# Altium integrated library Linear Technology Power Management Switching Regulator LTC1174-LTC3901.IntLib: 2647 symbols (part 305 of 364)
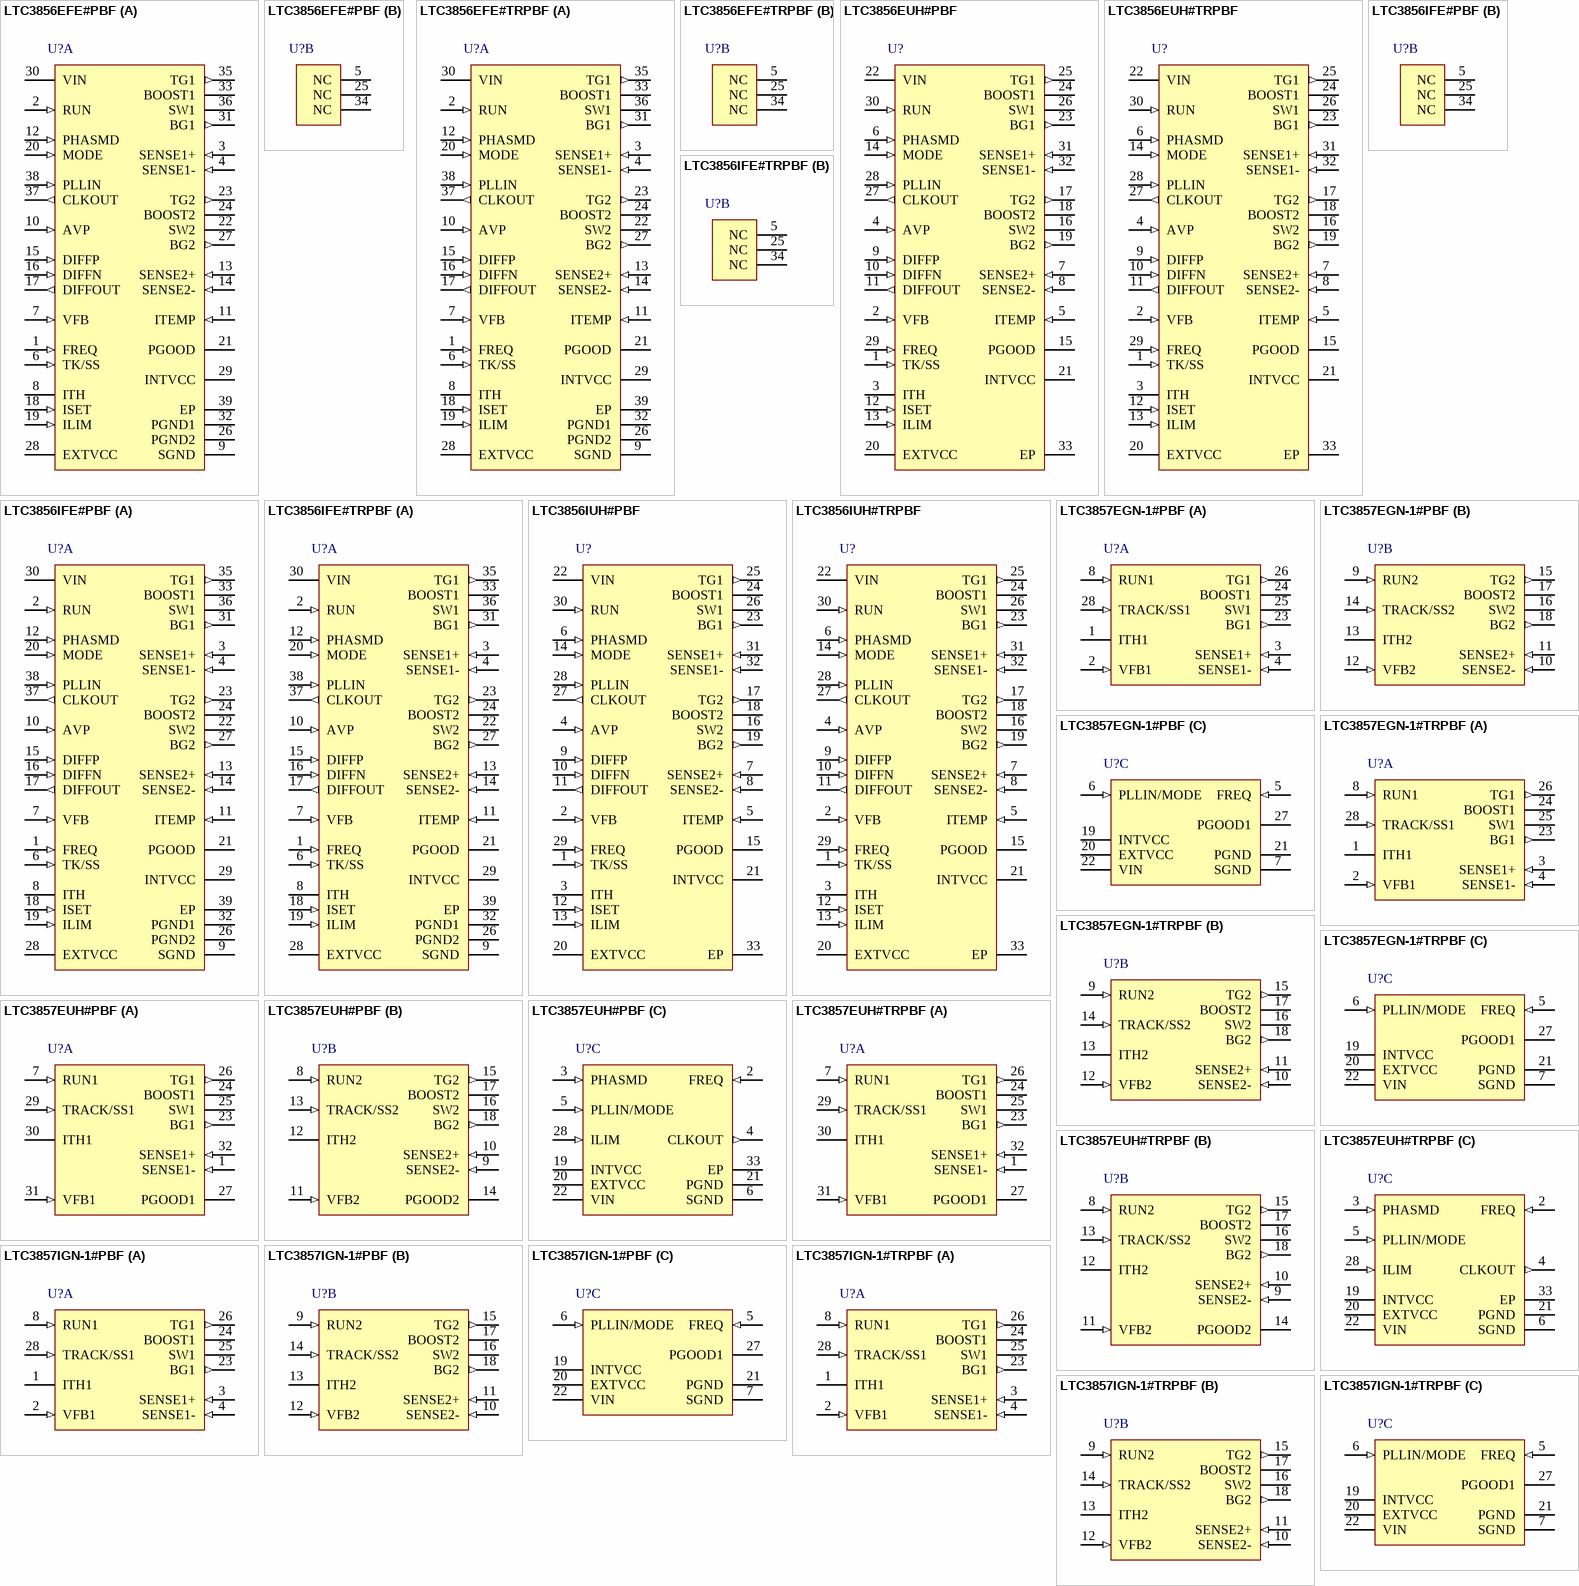
[diagram p275: symbols LTC3856EFE#PBF to LTC3857IGN-1#TRPBF]

## LTC3856EUH#PBF
designator U?
2-Phase Synchronous Step-Down DC/DC Controller with Differential Amplifier, 32-pin QFN (UH-32), -40 to 125 degC, Pb-Free; Manufacturer: Linear Technology; PartNumber: LTC3856EUH#PBF; Frequency Sync Range: 250kHz - 770kHz; Number of Outputs: 1; PackageVersion: Rev. D, 06/2010; PackageReference: UH-32; PackageDescription: 32-Pin Plastic QFN, Body 5 x 5 mm, Pitch 0.5 mm; Supplier 1: Digi-Key; Supplier Part Number 1: LTC3856EUH#PBF-ND; Supplier 2: Newark; Supplier Part Number 2: 13T3952; RoHS: TRUE; Mounting Technology: Surface Mount; Code_JEDEC: MO-220; ComponentLink1Description: Manufacturer URL; ComponentLink1URL: http://www.linear.com/; ComponentLink2Description: Datasheet; ComponentLink2URL: http://cds.linear.com/docs/en/datasheet/3856f.pdf; ComponentLink3Description: Package Specification; ComponentLink3URL: http://cds.linear.com/docs/en/packaging/QFN_32_05-08-1693.pdf
footprint LT-UH-32_N (QFN, 32-Leads, Body 5.1x5.1mm, Pitch 0.5mm, Thermal Pad 3.45X3.45mm, IPC Medium Density)
footprint LT-UH-32_L (QFN, 32-Leads, Body 5.1x5.1mm, Pitch 0.5mm, Thermal Pad 3.45X3.45mm, IPC High Density)
footprint LT-UH-32_M (QFN, 32-Leads, Body 5.1x5.1mm, Pitch 0.5mm, Thermal Pad 3.45X3.45mm, IPC Low Density)
pins: 1 TK/SS (in) "Output Voltage Tracking and SoftStart Input. When one particular IC is configured to be the master of two ICs, a capacitor to ground at this pin sets the ramp rate for the master IC’s output voltage. When the IC i(See Datasheet)", 2 VFB (in) "Error Amplifier Feedback Input. This pin receives the remotely sensed feedback voltage from an external resistive divider", 3 ITH "Current Control Threshold and Error Amplifier Compensation Point. Each associated channels’ current comparator tripping threshold increases with ITH control voltage.", 4 AVP (in) "Active Voltage Positioning Load Slope Programming Pin. A resistor between this pin and the DIFFP pin sets the load slope.", 5 ITEMP (in) "Input to the Temperature Sensing Circuit. Connect this pin to an external NTC (negative temperature coefficient) resistor placed near the heat source on the PCB board (e.g., inductors) changes the controller’s curren(See Datasheet)", 6 PHASMD (in) "Connect this pin to SGND, INTVCC, or float this pin to select the phase of CLKOUT to be 60degrees, 120degrees and 90degrees, respectively.", 7 SENSE2+ (in) "Current Sense Comparator Inputs. The (+) inputs to the current comparators are normally connected to DCR sensing networks or current sensing resistors.", 8 SENSE2- (in) "Current Sense Comparator Inputs. The (-) inputs to the current comparators are connected to the outputs.", 9 DIFFP (in) "Positive Input of Remote Sensing Differential Amplifier. Connect this directly to the remote load voltage.", 10 DIFFN (in) "Negative Input of Remote Sensing Differential Amplifier. Connect this pin to the negative terminal of output load capacitors.", 11 DIFFOUT (out) "Output of Remote Sensing Differential Amplifier. Connect this pin to VFB through a resistive divider.", 12 ISET (in) "Stage Shedding Mode Comparator and Burst Mode Comparator Programming Pin. A resistor to ground programs the threshold of the Stage Shedding mode comparator or Burst Mode comparator threshold and current limit.", 13 ILIM (in) "Current Comparator Sense Voltage Range Input. This pin is to be programmed to SGND, FLOAT or INTVCC to set the maximum current sense threshold to one of three different levels for both comparators.", 14 MODE (in) "Forced Continuous Mode, Burst Mode Operation or Stage Shedding Mode Selection Pin. Connect this pin to SGND to force IC in continuous mode of operation. Connect to INTVCC to enable Stage Shedding mode operation. Leaving the (See Datasheet)", 15 PGOOD (oc) "Signal Ground and Power Ground. All small-signal components and compensation components should connect to this ground, which in turn connects to PGND at one point.", 16 SW2 "Switch Node Connections to Inductors. Voltage swing at these pins is from a Schottky diode (external) voltage drop below ground to VIN.", 17 TG2 (out) "Top Gate Driver Outputs. These are the outputs of floating drivers with a voltage swing equal to INTVCC superimposed on the switch nodes voltages.", 18 BOOST2 "Boosted Floating Driver Supplies. The (+) terminal of the bootstrap capacitors connect to these pins. These pins swing from a diode voltage drop below INTVCC up to VIN + INTVCC.", 19 BG2 (out) "Bottom Gate Driver Outputs. These pins drive the gates of the bottom N-channel MOSFETs between INTVCC and PGND.", 20 EXTVCC (power) "External Power Input to an Internal Switch Connected to INTVCC. This switch closes and supplies the IC power, bypassing the internal low dropout regulator, whenever EXTVCC is higher than 4.7V. Do not exceed 6V on this pin (See Datasheet)", 21 INTVCC (power) "Internal 5V Regulator Output. The control circuits are powered from this voltage. Decouple this pin to PGND with a minimum of 4.7uF low ESR tantalum or ceramic capacitor", 22 VIN (power) "Main Input Supply. Decouple this pin to PGND with a capacitor (0.1uF to 1uF).", 23 BG1 (out) "Bottom Gate Driver Outputs. These pins drive the gates of the bottom N-channel MOSFETs between INTVCC and PGND.", 24 BOOST1 "Boosted Floating Driver Supplies. The (+) terminal of the bootstrap capacitors connect to these pins. These pins swing from a diode voltage drop below INTVCC up to VIN + INTVCC.", 25 TG1 (out) "Top Gate Driver Outputs. These are the outputs of floating drivers with a voltage swing equal to INTVCC superimposed on the switch nodes voltages.", 26 SW1 "Switch Node Connections to Inductors. Voltage swing at these pins is from a Schottky diode (external) voltage drop below ground to VIN.", 27 CLKOUT (out) "Clock output with phase changeable by PHASMD to enable usage of multiple LTC3856 ICs in multiphase systems.", 28 PLLIN (in) "External Synchronization Pin. A clock on the pin synchronizes the internal oscillator with the clock on this pin.", 29 FREQ (in) "Frequency Setting Pin. A resistor to ground sets the operating frequency of the controller. This pin can also be driven with a DC voltage to vary the frequency of the internal oscillator", 30 RUN (in) "Run Control Input. A voltage above 1.22V on this pin turns on the IC. There is a 1uA pull-up current for this pin. Once the RUN pin rises above 1.22V, an additional 4.5uA pull-up current is added to the pin.", 31 SENSE1+ (in) "Current Sense Comparator Inputs. The (+) inputs to the current comparators are normally connected to DCR sensing networks or current sensing resistors.", 32 SENSE1- (in) "Current Sense Comparator Inputs. The (-) inputs to the current comparators are connected to the outputs.", 33 EP (power) "Signal Ground and Power Ground. All small-signal components and compensation components should connect to this ground, which in turn connects to PGND at one point."

## LTC3856EUH#TRPBF
designator U?
2-Phase Synchronous Step-Down DC/DC Controller with Differential Amplifier, 32-pin QFN (UH-32), -40 to 125 degC, Pb-Free, Tape and Reel; Manufacturer: Linear Technology; PartNumber: LTC3856EUH#TRPBF; Frequency Sync Range: 250kHz - 770kHz; Number of Outputs: 1; PackageVersion: Rev. D, 06/2010; PackageReference: UH-32; PackageDescription: 32-Pin Plastic QFN, Body 5 x 5 mm, Pitch 0.5 mm; Supplier 1: Digi-Key; Supplier Part Number 1: LTC3856EUH#TRPBF-ND; Packing: Tape and Reel; RoHS: TRUE; Mounting Technology: Surface Mount; Code_JEDEC: MO-220; ComponentLink1Description: Manufacturer URL; ComponentLink1URL: http://www.linear.com/; ComponentLink2Description: Datasheet; ComponentLink2URL: http://cds.linear.com/docs/en/datasheet/3856f.pdf; ComponentLink3Description: Package Specification; ComponentLink3URL: http://cds.linear.com/docs/en/packaging/QFN_32_05-08-1693.pdf
footprint LT-UH-32_N (QFN, 32-Leads, Body 5.1x5.1mm, Pitch 0.5mm, Thermal Pad 3.45X3.45mm, IPC Medium Density)
footprint LT-UH-32_L (QFN, 32-Leads, Body 5.1x5.1mm, Pitch 0.5mm, Thermal Pad 3.45X3.45mm, IPC High Density)
footprint LT-UH-32_M (QFN, 32-Leads, Body 5.1x5.1mm, Pitch 0.5mm, Thermal Pad 3.45X3.45mm, IPC Low Density)
pins: 1 TK/SS (in) "Output Voltage Tracking and SoftStart Input. When one particular IC is configured to be the master of two ICs, a capacitor to ground at this pin sets the ramp rate for the master IC’s output voltage. When the IC i(See Datasheet)", 2 VFB (in) "Error Amplifier Feedback Input. This pin receives the remotely sensed feedback voltage from an external resistive divider", 3 ITH "Current Control Threshold and Error Amplifier Compensation Point. Each associated channels’ current comparator tripping threshold increases with ITH control voltage.", 4 AVP (in) "Active Voltage Positioning Load Slope Programming Pin. A resistor between this pin and the DIFFP pin sets the load slope.", 5 ITEMP (in) "Input to the Temperature Sensing Circuit. Connect this pin to an external NTC (negative temperature coefficient) resistor placed near the heat source on the PCB board (e.g., inductors) changes the controller’s curren(See Datasheet)", 6 PHASMD (in) "Connect this pin to SGND, INTVCC, or float this pin to select the phase of CLKOUT to be 60degrees, 120degrees and 90degrees, respectively.", 7 SENSE2+ (in) "Current Sense Comparator Inputs. The (+) inputs to the current comparators are normally connected to DCR sensing networks or current sensing resistors.", 8 SENSE2- (in) "Current Sense Comparator Inputs. The (-) inputs to the current comparators are connected to the outputs.", 9 DIFFP (in) "Positive Input of Remote Sensing Differential Amplifier. Connect this directly to the remote load voltage.", 10 DIFFN (in) "Negative Input of Remote Sensing Differential Amplifier. Connect this pin to the negative terminal of output load capacitors.", 11 DIFFOUT (out) "Output of Remote Sensing Differential Amplifier. Connect this pin to VFB through a resistive divider.", 12 ISET (in) "Stage Shedding Mode Comparator and Burst Mode Comparator Programming Pin. A resistor to ground programs the threshold of the Stage Shedding mode comparator or Burst Mode comparator threshold and current limit.", 13 ILIM (in) "Current Comparator Sense Voltage Range Input. This pin is to be programmed to SGND, FLOAT or INTVCC to set the maximum current sense threshold to one of three different levels for both comparators.", 14 MODE (in) "Forced Continuous Mode, Burst Mode Operation or Stage Shedding Mode Selection Pin. Connect this pin to SGND to force IC in continuous mode of operation. Connect to INTVCC to enable Stage Shedding mode operation. Leaving the (See Datasheet)", 15 PGOOD (oc) "Signal Ground and Power Ground. All small-signal components and compensation components should connect to this ground, which in turn connects to PGND at one point.", 16 SW2 "Switch Node Connections to Inductors. Voltage swing at these pins is from a Schottky diode (external) voltage drop below ground to VIN.", 17 TG2 (out) "Top Gate Driver Outputs. These are the outputs of floating drivers with a voltage swing equal to INTVCC superimposed on the switch nodes voltages.", 18 BOOST2 "Boosted Floating Driver Supplies. The (+) terminal of the bootstrap capacitors connect to these pins. These pins swing from a diode voltage drop below INTVCC up to VIN + INTVCC.", 19 BG2 (out) "Bottom Gate Driver Outputs. These pins drive the gates of the bottom N-channel MOSFETs between INTVCC and PGND.", 20 EXTVCC (power) "External Power Input to an Internal Switch Connected to INTVCC. This switch closes and supplies the IC power, bypassing the internal low dropout regulator, whenever EXTVCC is higher than 4.7V. Do not exceed 6V on this pin (See Datasheet)", 21 INTVCC (power) "Internal 5V Regulator Output. The control circuits are powered from this voltage. Decouple this pin to PGND with a minimum of 4.7uF low ESR tantalum or ceramic capacitor", 22 VIN (power) "Main Input Supply. Decouple this pin to PGND with a capacitor (0.1uF to 1uF).", 23 BG1 (out) "Bottom Gate Driver Outputs. These pins drive the gates of the bottom N-channel MOSFETs between INTVCC and PGND.", 24 BOOST1 "Boosted Floating Driver Supplies. The (+) terminal of the bootstrap capacitors connect to these pins. These pins swing from a diode voltage drop below INTVCC up to VIN + INTVCC.", 25 TG1 (out) "Top Gate Driver Outputs. These are the outputs of floating drivers with a voltage swing equal to INTVCC superimposed on the switch nodes voltages.", 26 SW1 "Switch Node Connections to Inductors. Voltage swing at these pins is from a Schottky diode (external) voltage drop below ground to VIN.", 27 CLKOUT (out) "Clock output with phase changeable by PHASMD to enable usage of multiple LTC3856 ICs in multiphase systems.", 28 PLLIN (in) "External Synchronization Pin. A clock on the pin synchronizes the internal oscillator with the clock on this pin.", 29 FREQ (in) "Frequency Setting Pin. A resistor to ground sets the operating frequency of the controller. This pin can also be driven with a DC voltage to vary the frequency of the internal oscillator", 30 RUN (in) "Run Control Input. A voltage above 1.22V on this pin turns on the IC. There is a 1uA pull-up current for this pin. Once the RUN pin rises above 1.22V, an additional 4.5uA pull-up current is added to the pin.", 31 SENSE1+ (in) "Current Sense Comparator Inputs. The (+) inputs to the current comparators are normally connected to DCR sensing networks or current sensing resistors.", 32 SENSE1- (in) "Current Sense Comparator Inputs. The (-) inputs to the current comparators are connected to the outputs.", 33 EP (power) "Signal Ground and Power Ground. All small-signal components and compensation components should connect to this ground, which in turn connects to PGND at one point."

## LTC3856IFE#PBF
designator U?
2-Phase Synchronous Step-Down DC/DC Controller with Differential Amplifier, 38-pin SOP (FE-38-EPV-AA), -40 to 125 degC, Pb-Free; Manufacturer: Linear Technology; PartNumber: LTC3856IFE#PBF; Frequency Sync Range: 250kHz - 770kHz; Number of Outputs: 1; PackageVersion: Rev. C, 09/2010; PackageReference: FE-38; PackageDescription: 38-Pin Plastic TSSOP, Body 9.7 x 4.4 mm, Pitch 0.5 mm; Supplier 1: Digi-Key; Supplier Part Number 1: LTC3856IFE#PBF-ND; RoHS: TRUE; Mounting Technology: Surface Mount; ComponentLink1Description: Manufacturer URL; ComponentLink1URL: http://www.linear.com/; ComponentLink2Description: Datasheet; ComponentLink2URL: http://cds.linear.com/docs/en/datasheet/3856f.pdf; ComponentLink3Description: Package Specification; ComponentLink3URL: http://cds.linear.com/docs/en/packaging/TSSOP_38_05-08-1772.pdf
footprint LT-FE-38-EPV-AA_N (SOP, 38-Leads, Body 9.8x4.5mm, Pitch 0.5mm, Thermal Pad 4.75x2.74mm, IPC Medium Density)
footprint LT-FE-38-EPV-AA_L (SOP, 38-Leads, Body 9.8x4.5mm, Pitch 0.5mm, Thermal Pad 4.75x2.74mm, IPC High Density)
footprint LT-FE-38-EPV-AA_M (SOP, 38-Leads, Body 9.8x4.5mm, Pitch 0.5mm, Thermal Pad 4.75x2.74mm, IPC Low Density)
part A pins: 1 FREQ (in) "Frequency Setting Pin. A resistor to ground sets the operating frequency of the controller. This pin can also be driven with a DC voltage to vary the frequency of the internal oscillator", 2 RUN (in) "Run Control Input. A voltage above 1.22V on this pin turns on the IC. There is a 1uA pull-up current for this pin. Once the RUN pin rises above 1.22V, an additional 4.5uA pull-up current is added to the pin.", 3 SENSE1+ (in) "Current Sense Comparator Inputs. The (+) inputs to the current comparators are normally connected to DCR sensing networks or current sensing resistors.", 4 SENSE1- (in) "Current Sense Comparator Inputs. The (-) inputs to the current comparators are connected to the outputs.", 6 TK/SS (in) "Output Voltage Tracking and SoftStart Input. When one particular IC is configured to be the master of two ICs, a capacitor to ground at this pin sets the ramp rate for the master IC’s output voltage. When the IC i(See Datasheet)", 7 VFB (in) "Error Amplifier Feedback Input. This pin receives the remotely sensed feedback voltage from an external resistive divider", 8 ITH "Current Control Threshold and Error Amplifier Compensation Point. Each associated channels?current comparator tripping threshold increases with ITH control voltage.", 9 SGND (power) "Signal Ground and Power Ground. All small-signal components and compensation components should connect to this ground, which in turn connects to PGND at one point.", 10 AVP (in) "Active Voltage Positioning Load Slope Programming Pin. A resistor between this pin and the DIFFP pin sets the load slope.", 11 ITEMP (in) "Input to the Temperature Sensing Circuit. Connect this pin to an external NTC (negative temperature coefficient) resistor placed near the heat source on the PCB board (e.g., inductors) changes the controller’s curren(See Datasheet)", 12 PHASMD (in) "Connect this pin to SGND, INTVCC, or float this pin to select the phase of CLKOUT to be 60degrees, 120degrees and 90degrees, respectively.", 13 SENSE2+ (in) "Current Sense Comparator Inputs. The (+) inputs to the current comparators are normally connected to DCR sensing networks or current sensing resistors.", 14 SENSE2- (in) "Current Sense Comparator Inputs. The (-) inputs to the current comparators are connected to the outputs.", 15 DIFFP (in) "Positive Input of Remote Sensing Differential Amplifier. Connect this directly to the remote load voltage.", 16 DIFFN (in) "Negative Input of Remote Sensing Differential Amplifier. Connect this pin to the negative terminal of output load capacitors.", 17 DIFFOUT (out) "Output of Remote Sensing Differential Amplifier. Connect this pin to VFB through a resistive divider.", 18 ISET (in) "Stage Shedding Mode Comparator and Burst Mode Comparator Programming Pin. A resistor to ground programs the threshold of the Stage Shedding mode comparator or Burst Mode comparator threshold and current limit.", 19 ILIM (in) "Current Comparator Sense Voltage Range Input. This pin is to be programmed to SGND, FLOAT or INTVCC to set the maximum current sense threshold to one of three different levels for both comparators.", 20 MODE (in) "Forced Continuous Mode, Burst Mode Operation or Stage Shedding Mode Selection Pin. Connect this pin to SGND to force IC in continuous mode of operation. Connect to INTVCC to enable Stage Shedding mode operation. Leaving the (See Datasheet)", 21 PGOOD (oc) "Power Good Indicator Output. Open-drain logic out that is pulled to ground when the output exceeds the +/-10% regulation window, after the internal 20us power-bad mask timer expires.", 22 SW2 "Switch Node Connections to Inductors. Voltage swing at these pins is from a Schottky diode (external) voltage drop below ground to VIN.", 23 TG2 (out) "Top Gate Driver Outputs. These are the outputs of floating drivers with a voltage swing equal to INTVCC superimposed on the switch nodes voltages.", 24 BOOST2 "Boosted Floating Driver Supplies. The (+) terminal of the bootstrap capacitors connect to these pins. These pins swing from a diode voltage drop below INTVCC up to VIN + INTVCC.", 26 PGND2 (power) "Power Ground Pin. Connect this pin closely to the sources of the bottom N-channel MOSFETs, the (-) terminal of CVCC and the (-) terminal of CIN.", 27 BG2 (out) "Bottom Gate Driver Outputs. These pins drive the gates of the bottom N-channel MOSFETs between INTVCC and PGND.", 28 EXTVCC (power) "rnal Power Input to an Internal Switch Connected to INTVCC. This switch closes and supplies the IC power, bypassing the internal low dropout regulator, whenever EXTVCC is higher than 4.7V. Do not exceed 6V on this pin and (See Datasheet)", 29 INTVCC (power) "Internal 5V Regulator Output. The control circuits are powered from this voltage. Decouple this pin to PGND with a minimum of 4.7uF low ESR tantalum or ceramic capacitor", 30 VIN (power) "Main Input Supply. Decouple this pin to PGND with a capacitor (0.1uF to 1uF).", 31 BG1 (out) "Bottom Gate Driver Outputs. These pins drive the gates of the bottom N-channel MOSFETs between INTVCC and PGND.", 32 PGND1 (power) "Power Ground Pin. Connect this pin closely to the sources of the bottom N-channel MOSFETs, the (-) terminal of CVCC and the (-) terminal of CIN.", 33 BOOST1 "Boosted Floating Driver Supplies. The (+) terminal of the bootstrap capacitors connect to these pins. These pins swing from a diode voltage drop below INTVCC up to VIN + INTVCC.", 35 TG1 (out) "Top Gate Driver Outputs. These are the outputs of floating drivers with a voltage swing equal to INTVCC superimposed on the switch nodes voltages.", 36 SW1 "Switch Node Connections to Inductors. Voltage swing at these pins is from a Schottky diode (external) voltage drop below ground to VIN.", 37 CLKOUT (out) "Clock output with phase changeable by PHASMD to enable usage of multiple LTC3856 ICs in multiphase systems.", 38 PLLIN (in) "External Synchronization Pin. A clock on the pin synchronizes the internal oscillator with the clock on this pin.", 39 EP (power) "exposed pad must be soldered to the PCB."
part B pins: 5 NC "No Connections.", 25 NC "No Connections.", 34 NC "No Connections."

## LTC3856IFE#TRPBF
designator U?
2-Phase Synchronous Step-Down DC/DC Controller with Differential Amplifier, 38-pin SOP (FE-38-EPV-AA), -40 to 125 degC, Pb-Free, Tape and Reel; Manufacturer: Linear Technology; PartNumber: LTC3856IFE#TRPBF; Frequency Sync Range: 250kHz - 770kHz; Number of Outputs: 1; PackageVersion: Rev. C, 09/2010; PackageReference: FE-38; PackageDescription: 38-Pin Plastic TSSOP, Body 9.7 x 4.4 mm, Pitch 0.5 mm; Supplier 1: Digi-Key; Supplier Part Number 1: LTC3856IFE#TRPBF-ND; Packing: Tape and Reel; RoHS: TRUE; Mounting Technology: Surface Mount; ComponentLink1Description: Manufacturer URL; ComponentLink1URL: http://www.linear.com/; ComponentLink2Description: Datasheet; ComponentLink2URL: http://cds.linear.com/docs/en/datasheet/3856f.pdf; ComponentLink3Description: Package Specification; ComponentLink3URL: http://cds.linear.com/docs/en/packaging/TSSOP_38_05-08-1772.pdf
footprint LT-FE-38-EPV-AA_N (SOP, 38-Leads, Body 9.8x4.5mm, Pitch 0.5mm, Thermal Pad 4.75x2.74mm, IPC Medium Density)
footprint LT-FE-38-EPV-AA_L (SOP, 38-Leads, Body 9.8x4.5mm, Pitch 0.5mm, Thermal Pad 4.75x2.74mm, IPC High Density)
footprint LT-FE-38-EPV-AA_M (SOP, 38-Leads, Body 9.8x4.5mm, Pitch 0.5mm, Thermal Pad 4.75x2.74mm, IPC Low Density)
part A pins: 1 FREQ (in) "Frequency Setting Pin. A resistor to ground sets the operating frequency of the controller. This pin can also be driven with a DC voltage to vary the frequency of the internal oscillator", 2 RUN (in) "Run Control Input. A voltage above 1.22V on this pin turns on the IC. There is a 1uA pull-up current for this pin. Once the RUN pin rises above 1.22V, an additional 4.5uA pull-up current is added to the pin.", 3 SENSE1+ (in) "Current Sense Comparator Inputs. The (+) inputs to the current comparators are normally connected to DCR sensing networks or current sensing resistors.", 4 SENSE1- (in) "Current Sense Comparator Inputs. The (-) inputs to the current comparators are connected to the outputs.", 6 TK/SS (in) "Output Voltage Tracking and SoftStart Input. When one particular IC is configured to be the master of two ICs, a capacitor to ground at this pin sets the ramp rate for the master IC’s output voltage. When the IC i(See Datasheet)", 7 VFB (in) "Error Amplifier Feedback Input. This pin receives the remotely sensed feedback voltage from an external resistive divider", 8 ITH "Current Control Threshold and Error Amplifier Compensation Point. Each associated channels?current comparator tripping threshold increases with ITH control voltage.", 9 SGND (power) "Signal Ground and Power Ground. All small-signal components and compensation components should connect to this ground, which in turn connects to PGND at one point.", 10 AVP (in) "Active Voltage Positioning Load Slope Programming Pin. A resistor between this pin and the DIFFP pin sets the load slope.", 11 ITEMP (in) "Input to the Temperature Sensing Circuit. Connect this pin to an external NTC (negative temperature coefficient) resistor placed near the heat source on the PCB board (e.g., inductors) changes the controller’s curren(See Datasheet)", 12 PHASMD (in) "Connect this pin to SGND, INTVCC, or float this pin to select the phase of CLKOUT to be 60degrees, 120degrees and 90degrees, respectively.", 13 SENSE2+ (in) "Current Sense Comparator Inputs. The (+) inputs to the current comparators are normally connected to DCR sensing networks or current sensing resistors.", 14 SENSE2- (in) "Current Sense Comparator Inputs. The (-) inputs to the current comparators are connected to the outputs.", 15 DIFFP (in) "Positive Input of Remote Sensing Differential Amplifier. Connect this directly to the remote load voltage.", 16 DIFFN (in) "Negative Input of Remote Sensing Differential Amplifier. Connect this pin to the negative terminal of output load capacitors.", 17 DIFFOUT (out) "Output of Remote Sensing Differential Amplifier. Connect this pin to VFB through a resistive divider.", 18 ISET (in) "Stage Shedding Mode Comparator and Burst Mode Comparator Programming Pin. A resistor to ground programs the threshold of the Stage Shedding mode comparator or Burst Mode comparator threshold and current limit.", 19 ILIM (in) "Current Comparator Sense Voltage Range Input. This pin is to be programmed to SGND, FLOAT or INTVCC to set the maximum current sense threshold to one of three different levels for both comparators.", 20 MODE (in) "Forced Continuous Mode, Burst Mode Operation or Stage Shedding Mode Selection Pin. Connect this pin to SGND to force IC in continuous mode of operation. Connect to INTVCC to enable Stage Shedding mode operation. Leaving the (See Datasheet)", 21 PGOOD (oc) "Power Good Indicator Output. Open-drain logic out that is pulled to ground when the output exceeds the +/-10% regulation window, after the internal 20us power-bad mask timer expires.", 22 SW2 "Switch Node Connections to Inductors. Voltage swing at these pins is from a Schottky diode (external) voltage drop below ground to VIN.", 23 TG2 (out) "Top Gate Driver Outputs. These are the outputs of floating drivers with a voltage swing equal to INTVCC superimposed on the switch nodes voltages.", 24 BOOST2 "Boosted Floating Driver Supplies. The (+) terminal of the bootstrap capacitors connect to these pins. These pins swing from a diode voltage drop below INTVCC up to VIN + INTVCC.", 26 PGND2 (power) "Power Ground Pin. Connect this pin closely to the sources of the bottom N-channel MOSFETs, the (-) terminal of CVCC and the (-) terminal of CIN.", 27 BG2 (out) "Bottom Gate Driver Outputs. These pins drive the gates of the bottom N-channel MOSFETs between INTVCC and PGND.", 28 EXTVCC (power) "rnal Power Input to an Internal Switch Connected to INTVCC. This switch closes and supplies the IC power, bypassing the internal low dropout regulator, whenever EXTVCC is higher than 4.7V. Do not exceed 6V on this pin and (See Datasheet)", 29 INTVCC (power) "Internal 5V Regulator Output. The control circuits are powered from this voltage. Decouple this pin to PGND with a minimum of 4.7uF low ESR tantalum or ceramic capacitor", 30 VIN (power) "Main Input Supply. Decouple this pin to PGND with a capacitor (0.1uF to 1uF).", 31 BG1 (out) "Bottom Gate Driver Outputs. These pins drive the gates of the bottom N-channel MOSFETs between INTVCC and PGND.", 32 PGND1 (power) "Power Ground Pin. Connect this pin closely to the sources of the bottom N-channel MOSFETs, the (-) terminal of CVCC and the (-) terminal of CIN.", 33 BOOST1 "Boosted Floating Driver Supplies. The (+) terminal of the bootstrap capacitors connect to these pins. These pins swing from a diode voltage drop below INTVCC up to VIN + INTVCC.", 35 TG1 (out) "Top Gate Driver Outputs. These are the outputs of floating drivers with a voltage swing equal to INTVCC superimposed on the switch nodes voltages.", 36 SW1 "Switch Node Connections to Inductors. Voltage swing at these pins is from a Schottky diode (external) voltage drop below ground to VIN.", 37 CLKOUT (out) "Clock output with phase changeable by PHASMD to enable usage of multiple LTC3856 ICs in multiphase systems.", 38 PLLIN (in) "External Synchronization Pin. A clock on the pin synchronizes the internal oscillator with the clock on this pin.", 39 EP (power) "exposed pad must be soldered to the PCB."
part B pins: 5 NC "No Connections.", 25 NC "No Connections.", 34 NC "No Connections."

## LTC3856IUH#PBF
designator U?
2-Phase Synchronous Step-Down DC/DC Controller with Differential Amplifier, 32-pin QFN (UH-32), -40 to 125 degC, Pb-Free; Manufacturer: Linear Technology; PartNumber: LTC3856IUH#PBF; Frequency Sync Range: 250kHz - 770kHz; Number of Outputs: 1; PackageVersion: Rev. D, 06/2010; PackageReference: UH-32; PackageDescription: 32-Pin Plastic QFN, Body 5 x 5 mm, Pitch 0.5 mm; Supplier 1: Digi-Key; Supplier Part Number 1: LTC3856IUH#PBF-ND; RoHS: TRUE; Mounting Technology: Surface Mount; Code_JEDEC: MO-220; ComponentLink1Description: Manufacturer URL; ComponentLink1URL: http://www.linear.com/; ComponentLink2Description: Datasheet; ComponentLink2URL: http://cds.linear.com/docs/en/datasheet/3856f.pdf; ComponentLink3Description: Package Specification; ComponentLink3URL: http://cds.linear.com/docs/en/packaging/QFN_32_05-08-1693.pdf
footprint LT-UH-32_N (QFN, 32-Leads, Body 5.1x5.1mm, Pitch 0.5mm, Thermal Pad 3.45X3.45mm, IPC Medium Density)
footprint LT-UH-32_L (QFN, 32-Leads, Body 5.1x5.1mm, Pitch 0.5mm, Thermal Pad 3.45X3.45mm, IPC High Density)
footprint LT-UH-32_M (QFN, 32-Leads, Body 5.1x5.1mm, Pitch 0.5mm, Thermal Pad 3.45X3.45mm, IPC Low Density)
pins: 1 TK/SS (in) "Output Voltage Tracking and SoftStart Input. When one particular IC is configured to be the master of two ICs, a capacitor to ground at this pin sets the ramp rate for the master IC’s output voltage. When the IC i(See Datasheet)", 2 VFB (in) "Error Amplifier Feedback Input. This pin receives the remotely sensed feedback voltage from an external resistive divider", 3 ITH "Current Control Threshold and Error Amplifier Compensation Point. Each associated channels’ current comparator tripping threshold increases with ITH control voltage.", 4 AVP (in) "Active Voltage Positioning Load Slope Programming Pin. A resistor between this pin and the DIFFP pin sets the load slope.", 5 ITEMP (in) "Input to the Temperature Sensing Circuit. Connect this pin to an external NTC (negative temperature coefficient) resistor placed near the heat source on the PCB board (e.g., inductors) changes the controller’s curren(See Datasheet)", 6 PHASMD (in) "Connect this pin to SGND, INTVCC, or float this pin to select the phase of CLKOUT to be 60degrees, 120degrees and 90degrees, respectively.", 7 SENSE2+ (in) "Current Sense Comparator Inputs. The (+) inputs to the current comparators are normally connected to DCR sensing networks or current sensing resistors.", 8 SENSE2- (in) "Current Sense Comparator Inputs. The (-) inputs to the current comparators are connected to the outputs.", 9 DIFFP (in) "Positive Input of Remote Sensing Differential Amplifier. Connect this directly to the remote load voltage.", 10 DIFFN (in) "Negative Input of Remote Sensing Differential Amplifier. Connect this pin to the negative terminal of output load capacitors.", 11 DIFFOUT (out) "Output of Remote Sensing Differential Amplifier. Connect this pin to VFB through a resistive divider.", 12 ISET (in) "Stage Shedding Mode Comparator and Burst Mode Comparator Programming Pin. A resistor to ground programs the threshold of the Stage Shedding mode comparator or Burst Mode comparator threshold and current limit.", 13 ILIM (in) "Current Comparator Sense Voltage Range Input. This pin is to be programmed to SGND, FLOAT or INTVCC to set the maximum current sense threshold to one of three different levels for both comparators.", 14 MODE (in) "Forced Continuous Mode, Burst Mode Operation or Stage Shedding Mode Selection Pin. Connect this pin to SGND to force IC in continuous mode of operation. Connect to INTVCC to enable Stage Shedding mode operation. Leaving the (See Datasheet)", 15 PGOOD (oc) "Signal Ground and Power Ground. All small-signal components and compensation components should connect to this ground, which in turn connects to PGND at one point.", 16 SW2 "Switch Node Connections to Inductors. Voltage swing at these pins is from a Schottky diode (external) voltage drop below ground to VIN.", 17 TG2 (out) "Top Gate Driver Outputs. These are the outputs of floating drivers with a voltage swing equal to INTVCC superimposed on the switch nodes voltages.", 18 BOOST2 "Boosted Floating Driver Supplies. The (+) terminal of the bootstrap capacitors connect to these pins. These pins swing from a diode voltage drop below INTVCC up to VIN + INTVCC.", 19 BG2 (out) "Bottom Gate Driver Outputs. These pins drive the gates of the bottom N-channel MOSFETs between INTVCC and PGND.", 20 EXTVCC (power) "External Power Input to an Internal Switch Connected to INTVCC. This switch closes and supplies the IC power, bypassing the internal low dropout regulator, whenever EXTVCC is higher than 4.7V. Do not exceed 6V on this pin (See Datasheet)", 21 INTVCC (power) "Internal 5V Regulator Output. The control circuits are powered from this voltage. Decouple this pin to PGND with a minimum of 4.7uF low ESR tantalum or ceramic capacitor", 22 VIN (power) "Main Input Supply. Decouple this pin to PGND with a capacitor (0.1uF to 1uF).", 23 BG1 (out) "Bottom Gate Driver Outputs. These pins drive the gates of the bottom N-channel MOSFETs between INTVCC and PGND.", 24 BOOST1 "Boosted Floating Driver Supplies. The (+) terminal of the bootstrap capacitors connect to these pins. These pins swing from a diode voltage drop below INTVCC up to VIN + INTVCC.", 25 TG1 (out) "Top Gate Driver Outputs. These are the outputs of floating drivers with a voltage swing equal to INTVCC superimposed on the switch nodes voltages.", 26 SW1 "Switch Node Connections to Inductors. Voltage swing at these pins is from a Schottky diode (external) voltage drop below ground to VIN.", 27 CLKOUT (out) "Clock output with phase changeable by PHASMD to enable usage of multiple LTC3856 ICs in multiphase systems.", 28 PLLIN (in) "External Synchronization Pin. A clock on the pin synchronizes the internal oscillator with the clock on this pin.", 29 FREQ (in) "Frequency Setting Pin. A resistor to ground sets the operating frequency of the controller. This pin can also be driven with a DC voltage to vary the frequency of the internal oscillator", 30 RUN (in) "Run Control Input. A voltage above 1.22V on this pin turns on the IC. There is a 1uA pull-up current for this pin. Once the RUN pin rises above 1.22V, an additional 4.5uA pull-up current is added to the pin.", 31 SENSE1+ (in) "Current Sense Comparator Inputs. The (+) inputs to the current comparators are normally connected to DCR sensing networks or current sensing resistors.", 32 SENSE1- (in) "Current Sense Comparator Inputs. The (-) inputs to the current comparators are connected to the outputs.", 33 EP (power) "Signal Ground and Power Ground. All small-signal components and compensation components should connect to this ground, which in turn connects to PGND at one point."

## LTC3856IUH#TRPBF
designator U?
2-Phase Synchronous Step-Down DC/DC Controller with Differential Amplifier, 32-pin QFN (UH-32), -40 to 125 degC, Pb-Free, Tape and Reel; Manufacturer: Linear Technology; PartNumber: LTC3856IUH#TRPBF; Frequency Sync Range: 250kHz - 770kHz; Number of Outputs: 1; PackageVersion: Rev. D, 06/2010; PackageReference: UH-32; PackageDescription: 32-Pin Plastic QFN, Body 5 x 5 mm, Pitch 0.5 mm; Supplier 1: Digi-Key; Supplier Part Number 1: LTC3856IUH#TRPBF-ND; Packing: Tape and Reel; RoHS: TRUE; Mounting Technology: Surface Mount; Code_JEDEC: MO-220; ComponentLink1Description: Manufacturer URL; ComponentLink1URL: http://www.linear.com/; ComponentLink2Description: Datasheet; ComponentLink2URL: http://cds.linear.com/docs/en/datasheet/3856f.pdf; ComponentLink3Description: Package Specification; ComponentLink3URL: http://cds.linear.com/docs/en/packaging/QFN_32_05-08-1693.pdf
footprint LT-UH-32_N (QFN, 32-Leads, Body 5.1x5.1mm, Pitch 0.5mm, Thermal Pad 3.45X3.45mm, IPC Medium Density)
footprint LT-UH-32_L (QFN, 32-Leads, Body 5.1x5.1mm, Pitch 0.5mm, Thermal Pad 3.45X3.45mm, IPC High Density)
footprint LT-UH-32_M (QFN, 32-Leads, Body 5.1x5.1mm, Pitch 0.5mm, Thermal Pad 3.45X3.45mm, IPC Low Density)
pins: 1 TK/SS (in) "Output Voltage Tracking and SoftStart Input. When one particular IC is configured to be the master of two ICs, a capacitor to ground at this pin sets the ramp rate for the master IC’s output voltage. When the IC i(See Datasheet)", 2 VFB (in) "Error Amplifier Feedback Input. This pin receives the remotely sensed feedback voltage from an external resistive divider", 3 ITH "Current Control Threshold and Error Amplifier Compensation Point. Each associated channels’ current comparator tripping threshold increases with ITH control voltage.", 4 AVP (in) "Active Voltage Positioning Load Slope Programming Pin. A resistor between this pin and the DIFFP pin sets the load slope.", 5 ITEMP (in) "Input to the Temperature Sensing Circuit. Connect this pin to an external NTC (negative temperature coefficient) resistor placed near the heat source on the PCB board (e.g., inductors) changes the controller’s curren(See Datasheet)", 6 PHASMD (in) "Connect this pin to SGND, INTVCC, or float this pin to select the phase of CLKOUT to be 60degrees, 120degrees and 90degrees, respectively.", 7 SENSE2+ (in) "Current Sense Comparator Inputs. The (+) inputs to the current comparators are normally connected to DCR sensing networks or current sensing resistors.", 8 SENSE2- (in) "Current Sense Comparator Inputs. The (-) inputs to the current comparators are connected to the outputs.", 9 DIFFP (in) "Positive Input of Remote Sensing Differential Amplifier. Connect this directly to the remote load voltage.", 10 DIFFN (in) "Negative Input of Remote Sensing Differential Amplifier. Connect this pin to the negative terminal of output load capacitors.", 11 DIFFOUT (out) "Output of Remote Sensing Differential Amplifier. Connect this pin to VFB through a resistive divider.", 12 ISET (in) "Stage Shedding Mode Comparator and Burst Mode Comparator Programming Pin. A resistor to ground programs the threshold of the Stage Shedding mode comparator or Burst Mode comparator threshold and current limit.", 13 ILIM (in) "Current Comparator Sense Voltage Range Input. This pin is to be programmed to SGND, FLOAT or INTVCC to set the maximum current sense threshold to one of three different levels for both comparators.", 14 MODE (in) "Forced Continuous Mode, Burst Mode Operation or Stage Shedding Mode Selection Pin. Connect this pin to SGND to force IC in continuous mode of operation. Connect to INTVCC to enable Stage Shedding mode operation. Leaving the (See Datasheet)", 15 PGOOD (oc) "Signal Ground and Power Ground. All small-signal components and compensation components should connect to this ground, which in turn connects to PGND at one point.", 16 SW2 "Switch Node Connections to Inductors. Voltage swing at these pins is from a Schottky diode (external) voltage drop below ground to VIN.", 17 TG2 (out) "Top Gate Driver Outputs. These are the outputs of floating drivers with a voltage swing equal to INTVCC superimposed on the switch nodes voltages.", 18 BOOST2 "Boosted Floating Driver Supplies. The (+) terminal of the bootstrap capacitors connect to these pins. These pins swing from a diode voltage drop below INTVCC up to VIN + INTVCC.", 19 BG2 (out) "Bottom Gate Driver Outputs. These pins drive the gates of the bottom N-channel MOSFETs between INTVCC and PGND.", 20 EXTVCC (power) "External Power Input to an Internal Switch Connected to INTVCC. This switch closes and supplies the IC power, bypassing the internal low dropout regulator, whenever EXTVCC is higher than 4.7V. Do not exceed 6V on this pin (See Datasheet)", 21 INTVCC (power) "Internal 5V Regulator Output. The control circuits are powered from this voltage. Decouple this pin to PGND with a minimum of 4.7uF low ESR tantalum or ceramic capacitor", 22 VIN (power) "Main Input Supply. Decouple this pin to PGND with a capacitor (0.1uF to 1uF).", 23 BG1 (out) "Bottom Gate Driver Outputs. These pins drive the gates of the bottom N-channel MOSFETs between INTVCC and PGND.", 24 BOOST1 "Boosted Floating Driver Supplies. The (+) terminal of the bootstrap capacitors connect to these pins. These pins swing from a diode voltage drop below INTVCC up to VIN + INTVCC.", 25 TG1 (out) "Top Gate Driver Outputs. These are the outputs of floating drivers with a voltage swing equal to INTVCC superimposed on the switch nodes voltages.", 26 SW1 "Switch Node Connections to Inductors. Voltage swing at these pins is from a Schottky diode (external) voltage drop below ground to VIN.", 27 CLKOUT (out) "Clock output with phase changeable by PHASMD to enable usage of multiple LTC3856 ICs in multiphase systems.", 28 PLLIN (in) "External Synchronization Pin. A clock on the pin synchronizes the internal oscillator with the clock on this pin.", 29 FREQ (in) "Frequency Setting Pin. A resistor to ground sets the operating frequency of the controller. This pin can also be driven with a DC voltage to vary the frequency of the internal oscillator", 30 RUN (in) "Run Control Input. A voltage above 1.22V on this pin turns on the IC. There is a 1uA pull-up current for this pin. Once the RUN pin rises above 1.22V, an additional 4.5uA pull-up current is added to the pin.", 31 SENSE1+ (in) "Current Sense Comparator Inputs. The (+) inputs to the current comparators are normally connected to DCR sensing networks or current sensing resistors.", 32 SENSE1- (in) "Current Sense Comparator Inputs. The (-) inputs to the current comparators are connected to the outputs.", 33 EP (power) "Signal Ground and Power Ground. All small-signal components and compensation components should connect to this ground, which in turn connects to PGND at one point."

## LTC3857EGN-1#PBF
designator U?
Low IQ, Dual, 2-Phase Synchronous Step-Down Step-Down Controller, 28-pin SOP (GN-28), -40 to 125 degC, Pb-Free; Manufacturer: Linear Technology; PartNumber: LTC3857EGN-1#PBF; Frequency Sync Range: 75kHz - 850kHz; Number of Outputs: 2; Over Voltage Protection(V): 40; DatasheetVersion: Rev. C; PackageVersion: Rev. B, 03/2012; PackageReference: GN-28; PackageDescription: 28-Pin Plastic SSOP, Body 9.9 x 3.9 mm, Pitch 0.635 mm; Supplier 1: Digi-Key; Supplier Part Number 1: LTC3857EGN-1#PBF-ND; Supplier 2: Newark; Supplier Part Number 2: 24R3316; RoHS: TRUE; Mounting Technology: Surface Mount; ComponentLink1Description: Manufacturer URL; ComponentLink1URL: http://www.linear.com/; ComponentLink2Description: Datasheet; ComponentLink2URL: http://cds.linear.com/docs/en/datasheet/38571fc.pdf; ComponentLink3Description: Package Specification; ComponentLink3URL: http://cds.linear.com/docs/en/packaging/05081641_B_GN28.pdf
footprint LT-GN-28_N (SOP, 28-Leads, Body 9.98x3.98mm, Pitch 0.635mm, IPC Medium Density)
footprint LT-GN-28_L (SOP, 28-Leads, Body 9.98x3.98mm, Pitch 0.635mm, IPC High Density)
footprint LT-GN-28_M (SOP, 28-Leads, Body 9.98x3.98mm, Pitch 0.635mm, IPC Low Density)
part A pins: 1 ITH1 "Error Amplifier Outputs and Switching Regulator Compensation Points. Each associated channel’s current comparator trip point increases with this control voltage.", 2 VFB1 (in) "Receives the remotely sensed feedback voltage for each controller from an external resistive divider across the output.", 3 SENSE1+ (in) "The (+) input to the differential current comparators are normally connected to DCR sensing networks or current sensing resistors. The ITH pin voltage and controlled offsets between the SENSE- and SENSE+ pins in conjunction (See Datasheet)", 4 SENSE1- (in) "The (-) Input to the Differential Current Comparators. When greater than INTVCC -0.5V, the SENSE- pin supplies current to the current comparator.", 8 RUN1 (in), 23 BG1 (out) "High Current Gate Drives for Bottom (Synchronous) N-Channel MOSFETs. Voltage swing at these pins is from ground to INTVCC", 24 BOOST1 "Bootstrapped Supplies to the Topside Floating Drivers. Capacitors are connected between the BOOST and SW pins and Schottky diodes are tied between the BOOST and INTVCC pins. Voltage swing at the BOOST pins is from INTVCC to (See Datasheet)", 25 SW1 "Switch Node Connections to Inductors", 26 TG1 (out) "High Current Gate Drives for Top N-Channel MOSFETs. These are the outputs of floating drivers with a voltage swing equal to INTVCC -0.5V superimposed on the switch node voltage SW.", 28 TRACK/SS1 (in)
part B pins: 9 RUN2 (in), 10 SENSE2- (in) "The (-) Input to the Differential Current Comparators. When greater than INTVCC -0.5V, the SENSE- pin supplies current to the current comparator.", 11 SENSE2+ (in) "The (+) input to the differential current comparators are normally connected to DCR sensing networks or current sensing resistors. The ITH pin voltage and controlled offsets between the SENSE- and SENSE+ pins in conjunction (See Datasheet)", 12 VFB2 (in) "Receives the remotely sensed feedback voltage for each controller from an external resistive divider across the output.", 13 ITH2 "Error Amplifier Outputs and Switching Regulator Compensation Points. Each associated channel’s current comparator trip point increases with this control voltage.", 14 TRACK/SS2 (in), 15 TG2 (out) "High Current Gate Drives for Top N-Channel MOSFETs. These are the outputs of floating drivers with a voltage swing equal to INTVCC -0.5V superimposed on the switch node voltage SW.", 16 SW2 "Switch Node Connections to Inductors", 17 BOOST2 "Bootstrapped Supplies to the Topside Floating Drivers. Capacitors are connected between the BOOST and SW pins and Schottky diodes are tied between the BOOST and INTVCC pins. Voltage swing at the BOOST pins is from INTVCC to (See Datasheet)", 18 BG2 (out) "High Current Gate Drives for Bottom (Synchronous) N-Channel MOSFETs. Voltage swing at these pins is from ground to INTVCC"
part C pins: 5 FREQ (in), 6 PLLIN/MODE (in), 7 SGND (power) "Small-signal ground common to both controllers, must be routed separately from high current grounds to the common (-) terminals of the CIN capacitors.", 19 INTVCC (power) "Output of the Internal Linear Low Dropout Regulator. The driver and control circuits are powered from this voltage source. Must be decoupled to power ground with a minimum of 4.7uF ceramic or other low ESR capacitor. Do not (See Datasheet)", 20 EXTVCC (power), 21 PGND (power) "Driver Power Ground. Connects to the sources of bottom (synchronous) N-channel MOSFETs and the (-) terminal(s) of CIN.", 22 VIN (power) "Main Supply Pin. A bypass capacitor should be tied between this pin and the signal ground pin.", 27 PGOOD1 (oc) "Open-Drain Logic Output. PGOOD1 is pulled to ground when the voltage on the VFB1 pin is not within +/-10% of its set point"